# Altium footprint library WSR32L000FEA.PcbLib: 1 footprints
Each footprint in its own frame and in the unit in brackets; x right, y up, seen from the top. Pads: shape width x height; smd on the part's side, far side on the other; paste and mask are expansions set on the pad; w line width, h text height; cw(c..) or ccw(c..) is an arc to the next point about the centre after c.
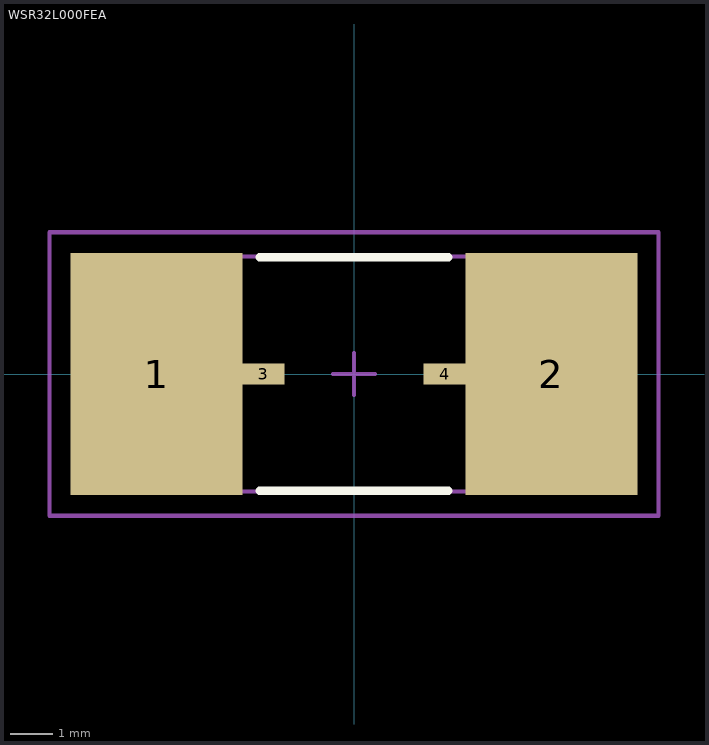
[diagram p0: the footprint, top view; thin cyan lines are the x and y axes]

## WSR32L000FEA [mm] "VISHAY DALE - WSR32L000FEA - RESISTOR, METAL STRIP, 0.002 OHM 1%"
height 2.53
pads (4):
  rect 4.1x5.75 smd: 1(-4.7,0) 2(4.7,0)
  rect 1x0.5 smd: 3(-2.159,0) 4(2.159,0)
Top Overlay:
  lines w0.2: -2.25,-2.775 2.25,-2.775 ; -2.25,2.775 2.25,2.775
Mechanical 13:
  lines w0.1: -6.185,-2.795 -6.185,2.795 6.185,2.795 6.185,-2.795 -6.185,-2.795
Mechanical 15:
  lines w0.1: -0.5,0 0.5,0 ; 0,-0.5 0,0.5 ; -7.25,-3.375 -7.25,3.375 7.25,3.375 7.25,-3.375 -7.25,-3.375
3D body: height 2.53, standoff 0, extent -6.185,-2.795 6.185,2.795